# Altium footprint library PCB - CONNECTOR - SAMTEC - SAMTEC_ESQ-126-39-G-D.PcbLib: 1 footprints
Each footprint in its own frame and in the unit in brackets; x right, y up, seen from the top. Pads: shape width x height; smd on the part's side, far side on the other; paste and mask are expansions set on the pad; w line width, h text height; cw(c..) or ccw(c..) is an arc to the next point about the centre after c.
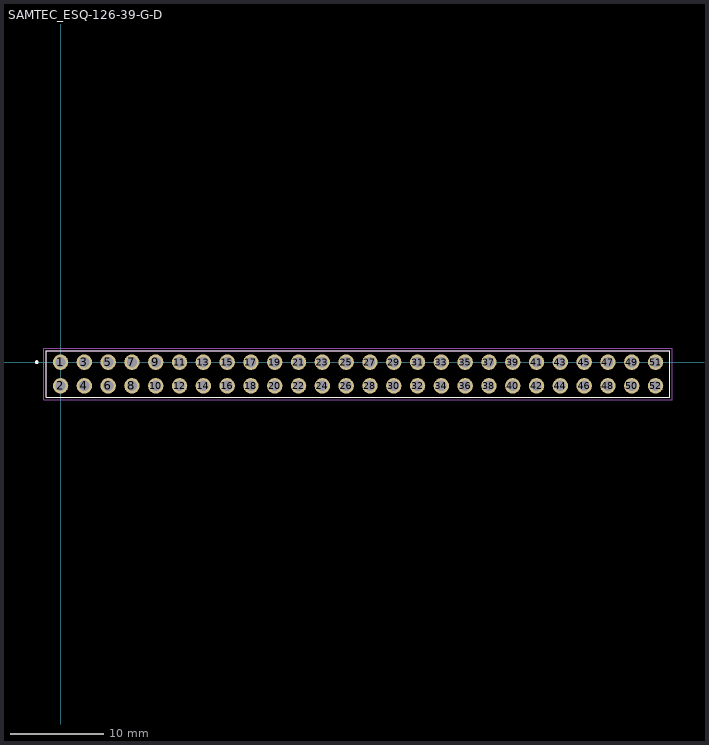
[diagram p0: the footprint, top view; thin cyan lines are the x and y axes]

## SAMTEC_ESQ-126-39-G-D [mm]
pads (52):
  round 1.65 hole 1.1: 1(0,0) 2(0,-2.54) 3(2.54,0) 4(2.54,-2.54) 5(5.08,0) 6(5.08,-2.54) 7(7.62,0) 8(7.62,-2.54) 9(10.16,0) 10(10.16,-2.54) 11(12.7,0) 12(12.7,-2.54) 13(15.24,0) 14(15.24,-2.54) 15(17.78,0) 16(17.78,-2.54) 17(20.32,0) 18(20.32,-2.54) 19(22.86,0) 20(22.86,-2.54) 21(25.4,0) 22(25.4,-2.54) 23(27.94,0) 24(27.94,-2.54) 25(30.48,0) 26(30.48,-2.54) 27(33.02,0) 28(33.02,-2.54) 29(35.56,0) 30(35.56,-2.54) 31(38.1,0) 32(38.1,-2.54) 33(40.64,0) 34(40.64,-2.54) 35(43.18,0) 36(43.18,-2.54) 37(45.72,0) 38(45.72,-2.54) 39(48.26,0) 40(48.26,-2.54) 41(50.8,0) 42(50.8,-2.54) 43(53.34,0) 44(53.34,-2.54) 45(55.88,0) 46(55.88,-2.54) 47(58.42,0) 48(58.42,-2.54) 49(60.96,0) 50(60.96,-2.54) 51(63.5,0) 52(63.5,-2.54)
Top Overlay:
  circle w0.2: c-2.54,0 r0.1
  lines w0.127: -1.525,-3.745 -1.525,1.205 65.025,1.205 65.025,-3.745 -1.525,-3.745
Mechanical 13:
  lines w0.127: -1.525,-3.745 65.025,-3.745 65.025,1.205 -1.525,1.206 -1.525,-3.745
Mechanical 15:
  lines w0.05: -1.775,-3.995 -1.775,1.455 65.275,1.455 65.275,-3.995 -1.775,-3.995
3D body "ESQ-126-39-G-D.stp": height 10.81, standoff -12.43, extent -1.524,-3.81 65.024,1.27
3D body: height 2.54, standoff -2.54, extent 15.875,8.001 15.875,8.001